# Altium footprint library Common-Parts-Library.PcbLib: 530 footprints (part 20 of 34)
Each footprint in its own frame and in the unit in brackets; x right, y up, seen from the top. Pads: shape width x height; smd on the part's side, far side on the other; paste and mask are expansions set on the pad; w line width, h text height; cw(c..) or ccw(c..) is an arc to the next point about the centre after c.
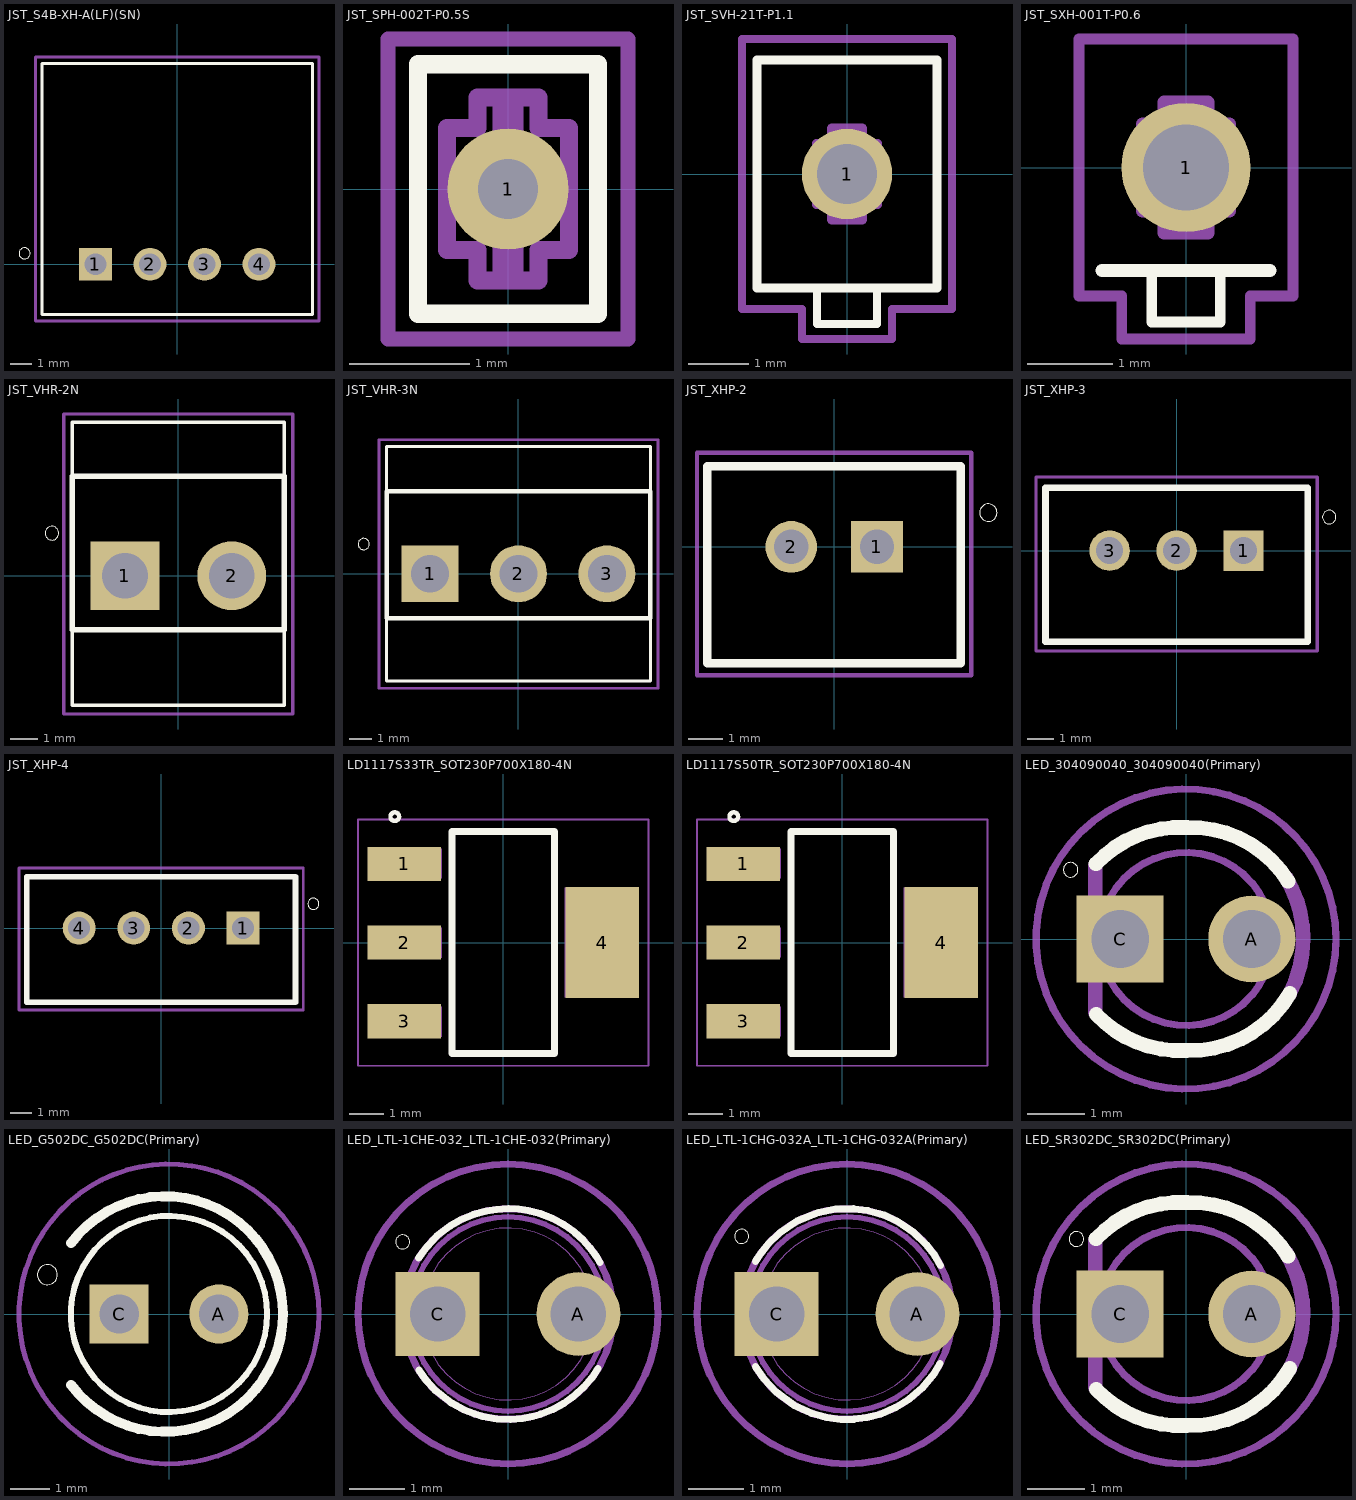
[diagram p19: the footprints below, top view; thin cyan lines are the x and y axes]

## JST_S4B-XH-A(LF)(SN) [mm]
pads (4):
  rect 1.508x1.508 hole 1: 1(-3.75,0)
  round 1.508 hole 1: 2(-1.25,0) 3(1.25,0) 4(3.75,0)
Top Overlay:
  circle w0: c-7,0.5 r0.254
  lines w0.127: -6.2,-2.3 -6.2,9.2 6.2,9.2 6.2,-2.3 -6.2,-2.3
Mechanical 1:
  lines w0.127: -6.5,-2.6 -6.5,9.5 6.5,9.5 6.5,-2.6 -6.5,-2.6

## JST_SPH-002T-P0.5S [mm]
pads (1):
  round 1.008 hole 0.5: 1(0,0)
Top Overlay:
  lines w0.152: -0.75,-1.04 0.75,-1.04 0.75,1.04 -0.75,1.04 -0.75,-1.04
Mechanical 1:
  region: -0.127,-0.254 0.127,-0.254 0.127,-0.763 -0.127,-0.763
  region: -0.127,0.762 0.127,0.762 0.127,0.254 -0.127,0.254
  lines w0.127: -1,-1.25 -1,1.25 1,1.25 1,-1.25 -1,-1.25
  lines w0.152: -0.508,-0.508 -0.254,-0.508 -0.254,-0.762 0.254,-0.762 0.254,-0.508 0.508,-0.508 0.508,0.508 0.254,0.508 0.254,0.762 -0.254,0.762 -0.254,0.508 -0.508,0.508 -0.508,-0.508

## JST_SVH-21T-P1.1 [mm]
pads (1):
  round 1.508 hole 1: 1(0,0)
Top Overlay:
  lines w0.127: -0.5,-2 -0.5,-2.5 0.5,-2.5 0.5,-2
  lines w0.152: -1.5,-1.9 1.5,-1.9 1.5,1.9 -1.5,1.9 -1.5,-1.9
Mechanical 1:
  region: -0.127,-0.254 0.127,-0.254 0.127,-0.764 -0.127,-0.764
  region: -0.127,0.762 0.127,0.762 0.127,0.255 -0.127,0.255
  lines w0.127: -1.75,-2.25 -1.75,2.25 1.75,2.25 1.75,-2.25 0.75,-2.25 0.75,-2.75 -0.75,-2.75 -0.75,-2.25 -1.75,-2.25
  lines w0.152: -0.508,-0.508 -0.254,-0.508 -0.254,-0.762 0.254,-0.762 0.254,-0.508 0.508,-0.508 0.508,0.508 0.254,0.508 0.254,0.762 -0.254,0.762 -0.254,0.508 -0.508,0.508 -0.508,-0.508

## JST_SXH-001T-P0.6 [mm]
pads (1):
  round 1.508 hole 1: 1(0,0)
Top Overlay:
  lines w0.127: -0.4,-1.2 -0.4,-1.8 0.4,-1.8 0.4,-1.2
  lines w0.152: -0.98,-1.2 -0.4,-1.2 0.4,-1.2 0.98,-1.2
Mechanical 1:
  region: -0.127,-0.254 0.127,-0.254 0.127,-0.764 -0.127,-0.764
  region: -0.127,0.762 0.127,0.762 0.127,0.255 -0.127,0.255
  lines w0.127: -1.25,-1.5 -1.25,1.5 1.25,1.5 1.25,-1.5 0.75,-1.5 0.75,-2 -0.75,-2 -0.75,-1.5 -1.25,-1.5
  lines w0.152: -0.508,-0.508 -0.254,-0.508 -0.254,-0.762 0.254,-0.762 0.254,-0.508 0.508,-0.508 0.508,0.508 0.254,0.508 0.254,0.762 -0.254,0.762 -0.254,0.508 -0.508,0.508 -0.508,-0.508

## JST_VHR-2N [mm]
pads (2):
  rect 2.55x2.55 hole 1.7: 1(-1.98,0)
  round 2.55 hole 1.7: 2(1.98,0)
Top Overlay:
  circle w0: c-4.685,1.58 r0.254
  lines w0.127: -3.93,-2 -3.93,-4.8 3.93,-4.8 3.93,-2 ; -3.93,3.7 -3.93,5.7 3.93,5.7 3.93,3.7
  lines w0.203: -3.93,-2 -3.93,3.7 3.93,3.7 3.93,-2 -3.93,-2
Mechanical 1:
  lines w0.127: -4.25,-5.125 4.25,-5.125 4.25,6 -4.25,6 -4.25,-5.125

## JST_VHR-3N [mm]
pads (3):
  rect 2.55x2.55 hole 1.7: 1(-3.96,0)
  round 2.55 hole 1.7: 2(0,0) 3(3.96,0)
Top Overlay:
  circle w0: c-6.935,1.33 r0.254
  lines w0.127: -5.91,-4.8 -5.91,3.7 -5.91,5.7 5.91,5.7 5.91,3.7 5.91,-4.8 -5.91,-4.8
  lines w0.203: -5.91,-2 -5.91,3.7 5.91,3.7 5.91,-2 -5.91,-2
Mechanical 1:
  lines w0.127: -6.25,-5.125 6.25,-5.125 6.25,6 -6.25,6 -6.25,-5.125

## JST_XHP-2 [mm]
pads (2):
  rect 1.508x1.508 hole 1: 1(1.25,0)
  round 1.508 hole 1: 2(-1.25,0)
Top Overlay:
  circle w0: c4.5,1 r0.254
  lines w0.254: -3.7,-3.4 -3.7,2.35 3.7,2.35 3.7,-3.4 -3.7,-3.4
Mechanical 1:
  lines w0.127: -4,-3.75 -4,2.75 4,2.75 4,-3.75 -4,-3.75

## JST_XHP-3 [mm]
pads (3):
  rect 1.508x1.508 hole 1: 1(2.5,0)
  round 1.508 hole 1: 2(0,0) 3(-2.5,0)
Top Overlay:
  circle w0: c5.7,1.25 r0.254
  lines w0.254: -4.9,-3.4 -4.9,2.35 4.9,2.35 4.9,-3.4 -4.9,-3.4
Mechanical 1:
  lines w0.127: -5.25,-3.75 -5.25,2.75 5.25,2.75 5.25,-3.75 -5.25,-3.75

## JST_XHP-4 [mm]
pads (4):
  rect 1.508x1.508 hole 1: 1(3.75,0)
  round 1.508 hole 1: 2(1.25,0) 3(-1.25,0) 4(-3.75,0)
Top Overlay:
  circle w0: c6.97,1.11 r0.254
  lines w0.254: -6.15,-3.4 -6.15,2.35 6.15,2.35 6.15,-3.4 -6.15,-3.4
Mechanical 1:
  lines w0.127: -6.5,-3.75 -6.5,2.75 6.5,2.75 6.5,-3.75 -6.5,-3.75

## LD1117S33TR_SOT230P700X180-4N [mm]
pads (4):
  rect 2.15x1 smd: 1(-2.9,2.3) 2(-2.9,0) 3(-2.9,-2.3)
  rect 2.15x3.25 smd: 4(2.9,0)
Top Overlay:
  circle w0.127: c-3.175,3.683 r0.127
  lines w0.203: -1.5,-3.25 -1.5,3.25 1.5,3.25 1.5,-3.25 -1.5,-3.25
Mechanical 1:
  region: -1.803,-1.88 -1.803,-2.746 -3.661,-2.746 -3.661,-1.88
  region: -1.807,2.747 -1.807,1.878 -3.659,1.878 -3.659,2.747
  region: -1.806,0.435 -1.806,-0.437 -3.663,-0.437 -3.663,0.435
  region: 3.66,1.598 3.66,-1.6 1.804,-1.6 1.804,1.598
  region: -1.803,-1.88 -1.803,-2.749 -3.663,-2.749 -3.663,-1.88
  region: -1.81,2.75 -1.81,1.877 -3.66,1.877 -3.66,2.75
  region: -1.805,0.433 -1.805,-0.435 -3.661,-0.435 -3.661,0.433
  region: 3.66,1.598 3.66,-1.6 1.804,-1.6 1.804,1.598
  lines w0.05: -4.25,-3.6 -4.25,3.6 4.25,3.6 4.25,-3.6 -4.25,-3.6

## LD1117S50TR_SOT230P700X180-4N [mm]
pads (4):
  rect 2.15x1 smd: 1(-2.9,2.3) 2(-2.9,0) 3(-2.9,-2.3)
  rect 2.15x3.25 smd: 4(2.9,0)
Top Overlay:
  circle w0.127: c-3.175,3.683 r0.127
  lines w0.203: -1.5,-3.25 -1.5,3.25 1.5,3.25 1.5,-3.25 -1.5,-3.25
Mechanical 1:
  region: -1.803,-1.88 -1.803,-2.745 -3.66,-2.745 -3.66,-1.88
  region: -1.807,2.747 -1.807,1.878 -3.659,1.878 -3.659,2.747
  region: -1.805,0.434 -1.805,-0.435 -3.661,-0.435 -3.661,0.434
  region: 3.659,1.599 3.659,-1.6 1.804,-1.6 1.804,1.599
  region: -1.803,-1.88 -1.803,-2.745 -3.659,-2.745 -3.659,-1.88
  region: -1.809,2.749 -1.809,1.877 -3.66,1.877 -3.66,2.749
  region: -1.804,0.432 -1.804,-0.433 -3.658,-0.433 -3.658,0.432
  region: 3.66,1.598 3.66,-1.6 1.804,-1.6 1.804,1.598
  lines w0.05: -4.25,-3.6 -4.25,3.6 4.25,3.6 4.25,-3.6 -4.25,-3.6

## LED_304090040_304090040(Primary) [mm]
pads (2):
  round 1.508 hole 1: A(1.14,0)
  rect 1.508x1.508 hole 1: C(-1.14,0)
Top Overlay:
  circle w0: c-2,1.2 r0.127
  lines w0.254: -1.56,1.304 cw(c-0.108,-0.05) -0.004,1.932 ; -1.558,-1.304 ccw(c-0.107,0.05) -0.003,-1.932 ; 0.014,-1.933 ccw(c0.083,0.05) 1.801,-0.942 ; 0.017,1.933 cw(c0.086,-0.05) 1.769,1.001
Mechanical 1:
  circle w0.127: c0,0 r2.6
  circle w0.127: c0,0 r1.5
  lines w0.254: -1.575,-1.27 -1.575,1.27 ; 1.723,1.077 cw(c0,0) 2.032,0 cw(c0,0) 1.794,-0.954

## LED_G502DC_G502DC(Primary) [mm]
pads (2):
  round 1.508 hole 1: A(1.27,0)
  rect 1.508x1.508 hole 1: C(-1.27,0)
Top Overlay:
  circle w0: c-3.1,1 r0.254
  circle w0.152: c0,0 r2.5
  lines w0.254: -2.496,-1.805 ccw(c-0.1,0) -2.496,1.805
Mechanical 1:
  circle w0.127: c0,0 r3.821

## LED_LTL-1CHE-032_LTL-1CHE-032(Primary) [mm]
pads (2):
  round 1.508 hole 1: A(1.27,0)
  rect 1.508x1.508 hole 1: C(-1.27,0)
Top Overlay:
  circle w0: c-1.9,1.3 r0.127
  lines w0.127: -1.611,1.006 -1.466,1.21 -1.289,1.399 -1.04,1.59 -0.873,1.688 -0.633,1.793 -0.388,1.859 -0.206,1.888 0.01,1.902 0.193,1.891 0.363,1.865 0.576,1.811 0.806,1.722 1.012,1.608 1.198,1.476 1.349,1.339 1.484,1.185 1.602,1.025 1.658,0.925 ; -1.606,-1.014 -1.481,-1.194 -1.313,-1.375 -1.024,-1.601 -0.803,-1.724 -0.607,-1.8 -0.454,-1.847 -0.199,-1.891 0.042,-1.902 0.262,-1.884 0.44,-1.851 0.59,-1.806 0.812,-1.72 1.008,-1.61 1.177,-1.489 1.379,-1.303 1.513,-1.151 1.624,-0.982
Mechanical 1:
  circle w0.127: c0,0 r2.704
  circle w0: c0,0 r1.55
  circle w0.1: c0,0 r1.75
  circle w0.127: c0,0 r1.9

## LED_LTL-1CHG-032A_LTL-1CHG-032A(Primary) [mm]
pads (2):
  round 1.508 hole 1: A(1.27,0)
  rect 1.508x1.508 hole 1: C(-1.27,0)
Top Overlay:
  circle w0: c-1.9,1.4 r0.127
  lines w0.127: -1.652,-0.951 -1.497,-1.174 -1.278,-1.408 -0.958,-1.642 -0.637,-1.791 -0.364,-1.865 -0.111,-1.899 0.126,-1.897 0.356,-1.867 0.604,-1.806 0.879,-1.685 1.126,-1.531 1.347,-1.342 1.579,-1.065 1.679,-0.893 ; -1.65,0.95 -1.55,1.099 -1.413,1.273 -1.218,1.461 -0.902,1.677 -0.507,1.833 -0.205,1.89 0.116,1.897 0.378,1.862 0.663,1.785 0.902,1.674 1.203,1.472 1.428,1.252 1.574,1.069 1.687,0.871
Mechanical 1:
  circle w0.127: c0,0 r2.704
  circle w0: c0,0 r1.55
  circle w0.1: c0,0 r1.75
  circle w0.127: c0,0 r1.9

## LED_SR302DC_SR302DC(Primary) [mm]
pads (2):
  round 1.508 hole 1: A(1.14,0)
  rect 1.508x1.508 hole 1: C(-1.14,0)
Top Overlay:
  circle w0: c-1.9,1.3 r0.127
  lines w0.254: -1.56,1.304 cw(c-0.108,-0.05) -0.004,1.932 ; -1.558,-1.304 ccw(c-0.107,0.05) -0.003,-1.932 ; 0.014,-1.933 ccw(c0.083,0.05) 1.801,-0.942 ; 0.017,1.933 cw(c0.086,-0.05) 1.769,1.001
Mechanical 1:
  circle w0.127: c0,0 r2.6
  circle w0.127: c0,0 r1.5
  lines w0.254: -1.575,-1.27 -1.575,1.27 ; 1.723,1.077 cw(c0,0) 2.032,0 cw(c0,0) 1.794,-0.954